# Altium footprint library WSL5931L2000FEA.PcbLib: 3 footprints
Each footprint in its own frame and in the unit in brackets; x right, y up, seen from the top. Pads: shape width x height; smd on the part's side, far side on the other; paste and mask are expansions set on the pad; w line width, h text height; cw(c..) or ccw(c..) is an arc to the next point about the centre after c.
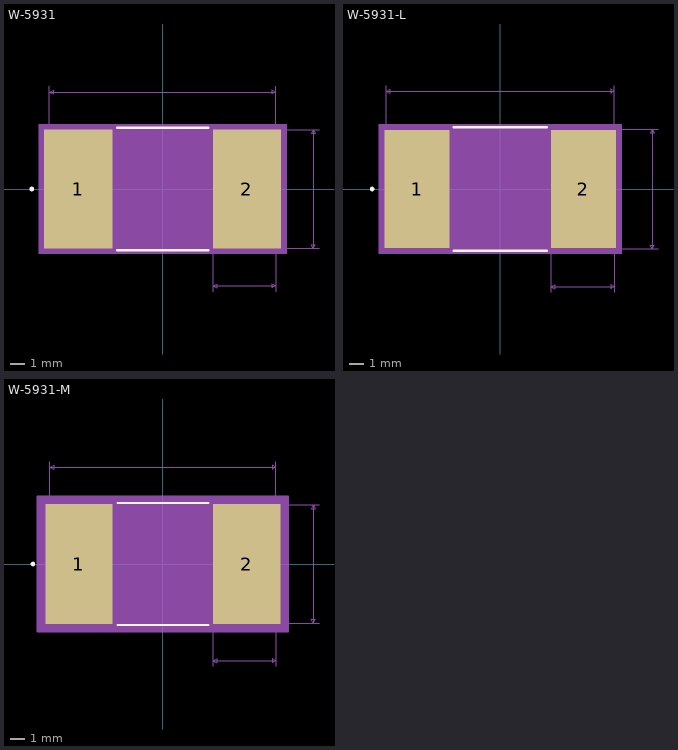
[diagram p0: the footprints below, top view; thin cyan lines are the x and y axes]

## W-5931 [mil]
pads (2):
  rect 181x315 smd: 1(-224,0) 2(224,0)
Top Overlay:
  circle w6: c-347.5,0 r3
  lines w6: -121.39,-162.5 121.39,-162.5 ; -121.39,162.5 121.39,162.5
Mechanical 5:
  region: 329.5,-172.5 -329.5,-172.5 -329.5,172.5 329.5,172.5
Mechanical 7:
  lines w1: -300.5,0 -300.5,272.5 ; 0,-157.5 415.5,-157.5 ; 0,157.5 415.5,157.5 ; 133.5,-272.5 133.5,0 ; 300.5,-272.5 300.5,0 300.5,272.5 ; -300.5,257.5 300.5,257.5 ; -300.5,257.5 -290.5,262.5 -290.5,252.5 -300.5,257.5 ; 133.5,-257.5 300.5,-257.5 ; 133.5,-257.5 143.5,-252.5 143.5,-262.5 133.5,-257.5 ; 300.5,-257.5 290.5,-252.5 290.5,-262.5 300.5,-257.5 ; 300.5,257.5 290.5,262.5 290.5,252.5 300.5,257.5 ; 400.5,-157.5 400.5,157.5 ; 400.5,-157.5 395.5,-147.5 405.5,-147.5 400.5,-157.5 ; 400.5,157.5 395.5,147.5 405.5,147.5 400.5,157.5
  text "Default Padstyle: RX181Y315D0T" at -375,-427.5 h50
  text "Alt 1 Padstyle: OX60Y90D30P" at -337.5,-487.5 h50
  text "Alt 2 Padstyle: OX90Y60D30P" at -337.5,-547.5 h50
  text "0.315in/8.001mm" at 420.5,-12.5 h25
  text "0.601in/15.265mm" at -100,277.5 h25
  text "0.167in/4.242mm" at 123.25,-302.5 h25
Mechanical 13:
  circle w0: c-219,0 r3
  lines w1: -300.5,-157.5 -300.5,157.5 ; -300.5,-157.5 -133.5,-157.5 -133.5,157.5 -300.5,157.5 ; -300.5,-157.5 300.5,-157.5 ; -300.5,-157.5 -300.5,157.5 ; -300.5,157.5 300.5,157.5 ; 300.5,-157.5 133.5,-157.5 133.5,157.5 300.5,157.5 ; 300.5,-157.5 300.5,157.5 ; 300.5,-157.5 300.5,157.5
Mechanical 15:
  region: 324.5,-167.5 -324.5,-167.5 -324.5,167.5 324.5,167.5
  lines w6: -324.5,-167.5 -324.5,167.5 324.5,167.5 324.5,-167.5 -324.5,-167.5
3D body: height 10, standoff 0, extent 0,0 10,10

## W-5931-L [mil]
pads (2):
  rect 171x311 smd paste+0 mask+0: 1(-219,0) 2(219,0)
Top Overlay:
  circle w6: c-337.5,0 r3
  lines w6: -122.43,-162.5 122.43,-162.5 ; -122.43,162.5 122.43,162.5
Mechanical 5:
  region: 319.5,-170.5 -319.5,-170.5 -319.5,170.5 319.5,170.5
Mechanical 7:
  lines w1: -300.5,0 -300.5,272.5 ; 0,-157.5 415.5,-157.5 ; 0,157.5 415.5,157.5 ; 133.5,-272.5 133.5,0 ; 300.5,-272.5 300.5,0 300.5,272.5 ; -300.5,257.5 300.5,257.5 ; -300.5,257.5 -290.5,262.5 -290.5,252.5 -300.5,257.5 ; 133.5,-257.5 300.5,-257.5 ; 133.5,-257.5 143.5,-252.5 143.5,-262.5 133.5,-257.5 ; 300.5,-257.5 290.5,-252.5 290.5,-262.5 300.5,-257.5 ; 300.5,257.5 290.5,262.5 290.5,252.5 300.5,257.5 ; 400.5,-157.5 400.5,157.5 ; 400.5,-157.5 395.5,-147.5 405.5,-147.5 400.5,-157.5 ; 400.5,157.5 395.5,147.5 405.5,147.5 400.5,157.5
  text "Default Padstyle: RX171Y311D0T" at -375,-425.5 h50
  text "Alt 1 Padstyle: OX60Y90D30P" at -337.5,-485.5 h50
  text "Alt 2 Padstyle: OX90Y60D30P" at -337.5,-545.5 h50
  text "0.315in/8.001mm" at 420.5,-12.5 h25
  text "0.601in/15.265mm" at -100,277.5 h25
  text "0.167in/4.242mm" at 123.25,-302.5 h25
Mechanical 13:
  circle w0: c-214,0 r3
  lines w1: -300.5,-157.5 -300.5,157.5 ; -300.5,-157.5 -133.5,-157.5 -133.5,157.5 -300.5,157.5 ; -300.5,-157.5 300.5,-157.5 ; -300.5,-157.5 -300.5,157.5 ; -300.5,157.5 300.5,157.5 ; 300.5,-157.5 133.5,-157.5 133.5,157.5 300.5,157.5 ; 300.5,-157.5 300.5,157.5 ; 300.5,-157.5 300.5,157.5
Mechanical 15:
  region: 308.5,-159.5 -308.5,-159.5 -308.5,159.5 308.5,159.5
  lines w6: -308.5,-159.5 -308.5,159.5 308.5,159.5 308.5,-159.5 -308.5,-159.5
3D body: height 10, standoff 0, extent 0,0 10,10

## W-5931-M [mil]
pads (2):
  rect 179x319 smd paste+0 mask+0: 1(-223,0) 2(223,0)
Top Overlay:
  circle w6: c-345.5,0 r3
  lines w6: -120.75,-162.5 120.75,-162.5 ; -120.75,162.5 120.75,162.5
Mechanical 5:
  region: 327.5,-174.5 -327.5,-174.5 -327.5,174.5 327.5,174.5
Mechanical 7:
  lines w1: -300.5,0 -300.5,272.5 ; 0,-157.5 415.5,-157.5 ; 0,157.5 415.5,157.5 ; 133.5,-272.5 133.5,0 ; 300.5,-272.5 300.5,0 300.5,272.5 ; -300.5,257.5 300.5,257.5 ; -300.5,257.5 -290.5,262.5 -290.5,252.5 -300.5,257.5 ; 133.5,-257.5 300.5,-257.5 ; 133.5,-257.5 143.5,-252.5 143.5,-262.5 133.5,-257.5 ; 300.5,-257.5 290.5,-252.5 290.5,-262.5 300.5,-257.5 ; 300.5,257.5 290.5,262.5 290.5,252.5 300.5,257.5 ; 400.5,-157.5 400.5,157.5 ; 400.5,-157.5 395.5,-147.5 405.5,-147.5 400.5,-157.5 ; 400.5,157.5 395.5,147.5 405.5,147.5 400.5,157.5
  text "Default Padstyle: RX179Y319D0T" at -375,-429.5 h50
  text "Alt 1 Padstyle: OX60Y90D30P" at -337.5,-489.5 h50
  text "Alt 2 Padstyle: OX90Y60D30P" at -337.5,-549.5 h50
  text "0.315in/8.001mm" at 420.5,-12.5 h25
  text "0.601in/15.265mm" at -100,277.5 h25
  text "0.167in/4.242mm" at 123.25,-302.5 h25
Mechanical 13:
  circle w0: c-218,0 r3
  lines w1: -300.5,-157.5 -300.5,157.5 ; -300.5,-157.5 -133.5,-157.5 -133.5,157.5 -300.5,157.5 ; -300.5,-157.5 300.5,-157.5 ; -300.5,-157.5 -300.5,157.5 ; -300.5,157.5 300.5,157.5 ; 300.5,-157.5 133.5,-157.5 133.5,157.5 300.5,157.5 ; 300.5,-157.5 300.5,157.5 ; 300.5,-157.5 300.5,157.5
Mechanical 15:
  region: 332.5,-179.5 -332.5,-179.5 -332.5,179.5 332.5,179.5
  lines w6: -332.5,-179.5 -332.5,179.5 332.5,179.5 332.5,-179.5 -332.5,-179.5
3D body: height 10, standoff 0, extent 0,0 10,10